# Altium schematic symbol library Дополнительные_элементы.SchLib: 2 symbols
Pins are listed as number, name and electrical type; pins without a type are passive.

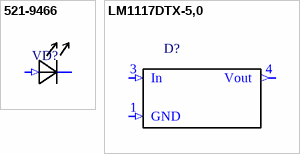
[diagram p0: symbols 521-9466 to LM1117DTX-5,0]

## 521-9466
designator VD?  (value not drawn)
Светодиод жёлтый; Manufacturer: “Dialight”; Name: 521-9466; Name2: Светодиод желтый 521-9466; Created_by: Шумкин; Bom: =Name+’ ‘+Manufacturer; Case: Диаметр 5мм вертикальный
footprint 521-9466
pins: A (in), K

## LM1117DTX-5,0
designator D?, comment SOT-223  (value not drawn)
Преобразователь напряжения 5,0V TO-252; Manufacturer: "Texas Instruments"; Created_by: Шумкин; Name: LM1117DTX-5,0; Name2: Микросхема LM1117DTX-5,0; BOM: =Name+’ ‘+Manufacturer; Case: SOT-223, TO-252, WSON или TO-263
footprint LM-1117 (D-PAK, 3-Pads, Body 6,20x6,72mm (max), IPC Medium Density)
pins: 1 GND (in), 3 In (in), 4 Vout (out)